# Altium footprint library VNH5019.PcbLib: 1 footprints
Each footprint in its own frame and in the unit in brackets; x right, y up, seen from the top. Pads: shape width x height; smd on the part's side, far side on the other; paste and mask are expansions set on the pad; w line width, h text height; cw(c..) or ccw(c..) is an arc to the next point about the centre after c.
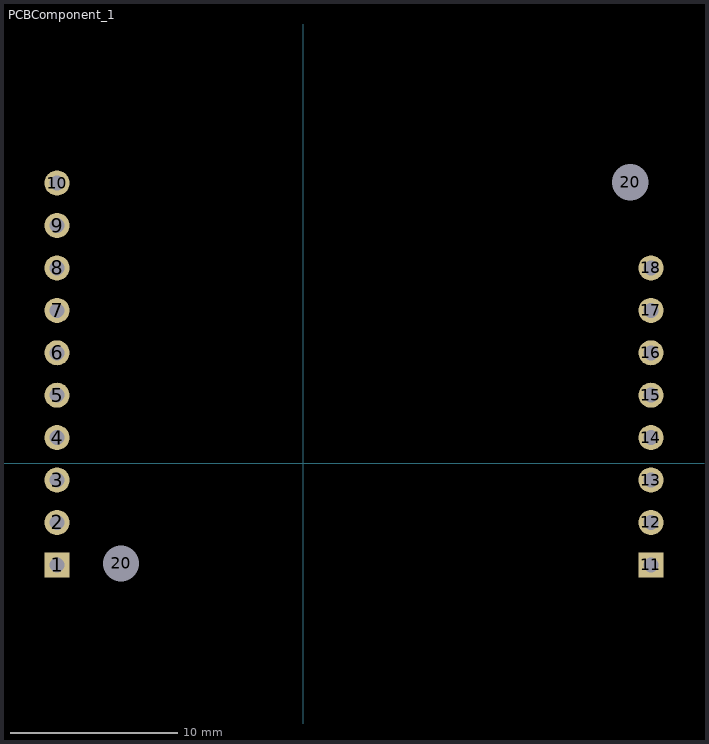
[diagram p0: the footprint, top view; thin cyan lines are the x and y axes]

## PCBComponent_1 [mm]
pads (20):
  rect 1.5x1.5 hole 0.9: 1(-14.732,-6.096) 11(20.828,-6.096)
  round 1.5 hole 0.9: 2(-14.732,-3.556) 3(-14.732,-1.016) 4(-14.732,1.524) 5(-14.732,4.064) 6(-14.732,6.604) 7(-14.732,9.144) 8(-14.732,11.684) 9(-14.732,14.224) 10(-14.732,16.764) 12(20.828,-3.556) 13(20.828,-1.016) 14(20.828,1.524) 15(20.828,4.064) 16(20.828,6.604) 17(20.828,9.144) 18(20.828,11.684)
  round 1.524 hole 2.18: 20(-10.902,-6.009) 20(19.598,16.804)
Bottom Overlay:
  lines w0.254: -16.002,-8.636 22.098,-8.636 22.098,19.304 -16.002,19.304 -16.002,-8.636